# Altium footprint library CAP_22ufar_1210pkg.PcbLib: 1 footprints
Each footprint in its own frame and in the unit in brackets; x right, y up, seen from the top. Pads: shape width x height; smd on the part's side, far side on the other; paste and mask are expansions set on the pad; w line width, h text height; cw(c..) or ccw(c..) is an arc to the next point about the centre after c.
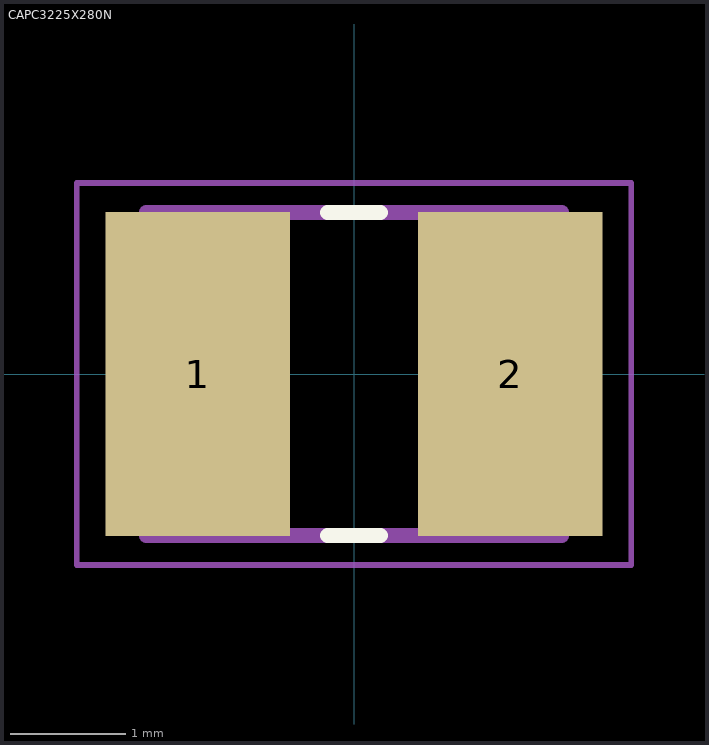
[diagram p0: the footprint, top view; thin cyan lines are the x and y axes]

## CAPC3225X280N [mm]
pads (2):
  rect 1.6x2.81 smd: 1(-1.353,0) 2(1.353,0)
Top Overlay:
  lines w0.127: -0.23,-1.4 0.23,-1.4 ; -0.23,1.4 0.23,1.4
Mechanical 13:
  lines w0.127: -1.8,-1.4 1.8,-1.4 1.8,1.4 -1.8,1.4 -1.8,-1.4
Mechanical 15:
  lines w0.05: -2.404,-1.655 2.404,-1.655 2.404,1.655 -2.404,1.655 -2.404,-1.655
3D body "GCJ32ER71C226KE01L.STEP": height 2.47, standoff -0.03, extent -1.6,-1.397 1.6,1.403